# EAGLE library part DMP3013SFV-7 (library DMP3013SFV-7)
Trans MOSFET P-CH 30V 12A 8-Pin PowerDI EP T/R Source: Datasheet <https://www.diodes.com//assets/Datasheets/DMP3013SFV.pdf>
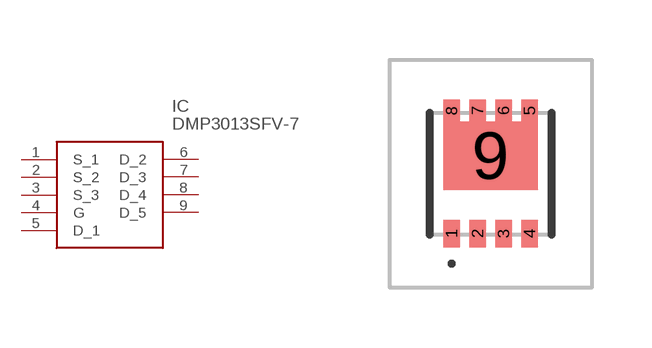
[diagram p0: symbol with the pads of DMP3036SFV7; footprint DMP3036SFV7]

Designator prefix IC

## DMP3013SFV-7 (Arrow_Part_Number: DMP3013SFV-7; Arrow_Price-Stock: https://www.arrow.com/en/products/dmp3013sfv-7/diodes-incorporated?utm_currency=USD&region=nac; Description: Trans MOSFET P-CH 30V 12A 8-Pin PowerDI EP T/R; Height: mm; Manufacturer_Name: Diodes Incorporated; Manufacturer_Part_Number: DMP3013SFV-7; Mouser_Part_Number: 621-DMP3013SFV-7; Mouser_Price-Stock: https://www.mouser.co.uk/ProductDetail/Diodes-Incorporated/DMP3013SFV-7?qs=W0yvOO0ixfH1hnmiAtL1VQ%3D%3D)  [DMP3036SFV7]
1  S_1
2  S_2
3  S_3
4  G
5  D_1
6  D_2
7  D_3
8  D_4
9  D_5

## Footprint DMP3036SFV7 (pad centres in mm)
PowerDI3333-8 (Type UX)
smd 0.42 x 0.7: 1 -0.975,-1.5; 2 -0.325,-1.5; 3 0.325,-1.5; 4 0.975,-1.5
smd 0.42 x 0.54: 5 0.975,1.58; 6 0.325,1.58; 7 -0.325,1.58; 8 -0.975,1.58
smd 2.37 x 1.71: 9 0,0.455